# Altium footprint library Crystal_THT.PcbLib: 2 footprints
Each footprint in its own frame and in the unit in brackets; x right, y up, seen from the top. Pads: shape width x height; smd on the part's side, far side on the other; paste and mask are expansions set on the pad; w line width, h text height; cw(c..) or ccw(c..) is an arc to the next point about the centre after c.
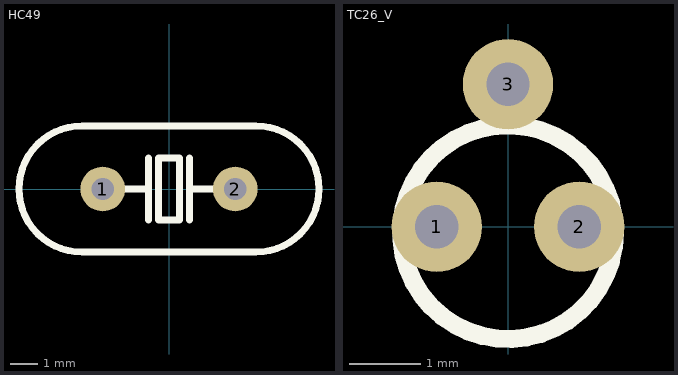
[diagram p0: the footprints below, top view; thin cyan lines are the x and y axes]

## HC49 [mil] "THT"
height 137.8
pads (2):
  round 65 hole 32: 1(-96.06,0) 2(96.06,0)
Top Overlay:
  lines w10: -65,0 -30,0 ; -30,-45 -30,45 ; 30,-45 30,45 ; 30,0 65,0 ; -125.99,-91.54 cw(c-125.98,0) -125.98,91.54 125.98,91.54 cw(c125.98,0) 125.98,-91.54 -125.98,-91.54 ; -15,-45 -15,45 15,45 15,-45 -15,-45
3D body: height 137.8, standoff -157.48, extent -224.41,-90.55 222.44,92.52

## TC26_V [mil]
pads (3):
  round 50 hole 24: 1(-39.37,0) 2(39.37,0) 3(0,78.74)
Top Overlay:
  circle w10: c0,-2.95 r59.06
3D body: height 0, standoff -78.74, extent -49.21,-9.83 -29.52,9.84
3D body: height 0, standoff -78.74, extent 29.53,-9.83 49.22,9.84
3D body: height 314.96, standoff 0, extent -59.03,-61.99 59.04,56.08